# EAGLE library part MCP6022 (library Bob_Headset)
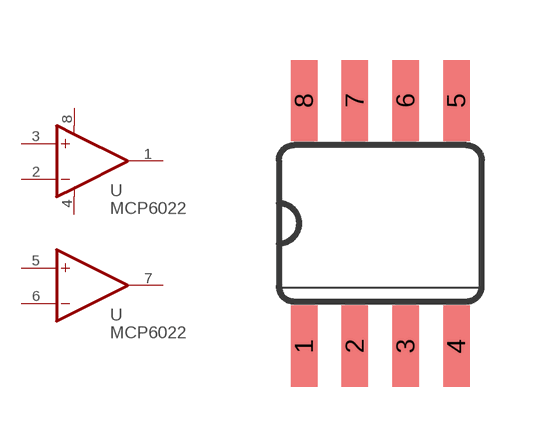
[diagram p3: symbol with the pads of SO08; footprint SO08]

Designator prefix -

## MCP6022  [SO08]
1  OUT  out
2  -IN  in
3  +IN  in
4  V-  pwr
5  +IN1  in
6  -IN1  in
7  OUT1  out
8  V+  pwr

## Footprint SO08 (pad centres in mm)
Small Outline Package SOIC 150 mil
smd 0.66 x 2.032: 1 -1.905,-3.073; 2 -0.635,-3.073; 3 0.635,-3.073; 4 1.905,-3.073; 5 1.905,3.073; 6 0.635,3.073; 7 -0.635,3.073; 8 -1.905,3.073